# Altium schematic symbol library module sim 800A.SchLib: 1 symbol
Pins are listed as number, name and electrical type; pins without a type are passive.

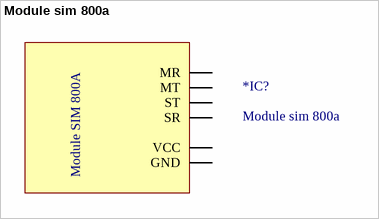
[diagram p0: symbol Module sim 800a]

## Module sim 800a
designator *IC?
pins: 1 MR, 2 MT, 3 ST, 3 SR, 5 VCC, 6 GND
text: Module SIM 800A